# Altium integrated library Microchip Power Mgt Line Regulator.IntLib: 1066 symbols (part 13 of 26)
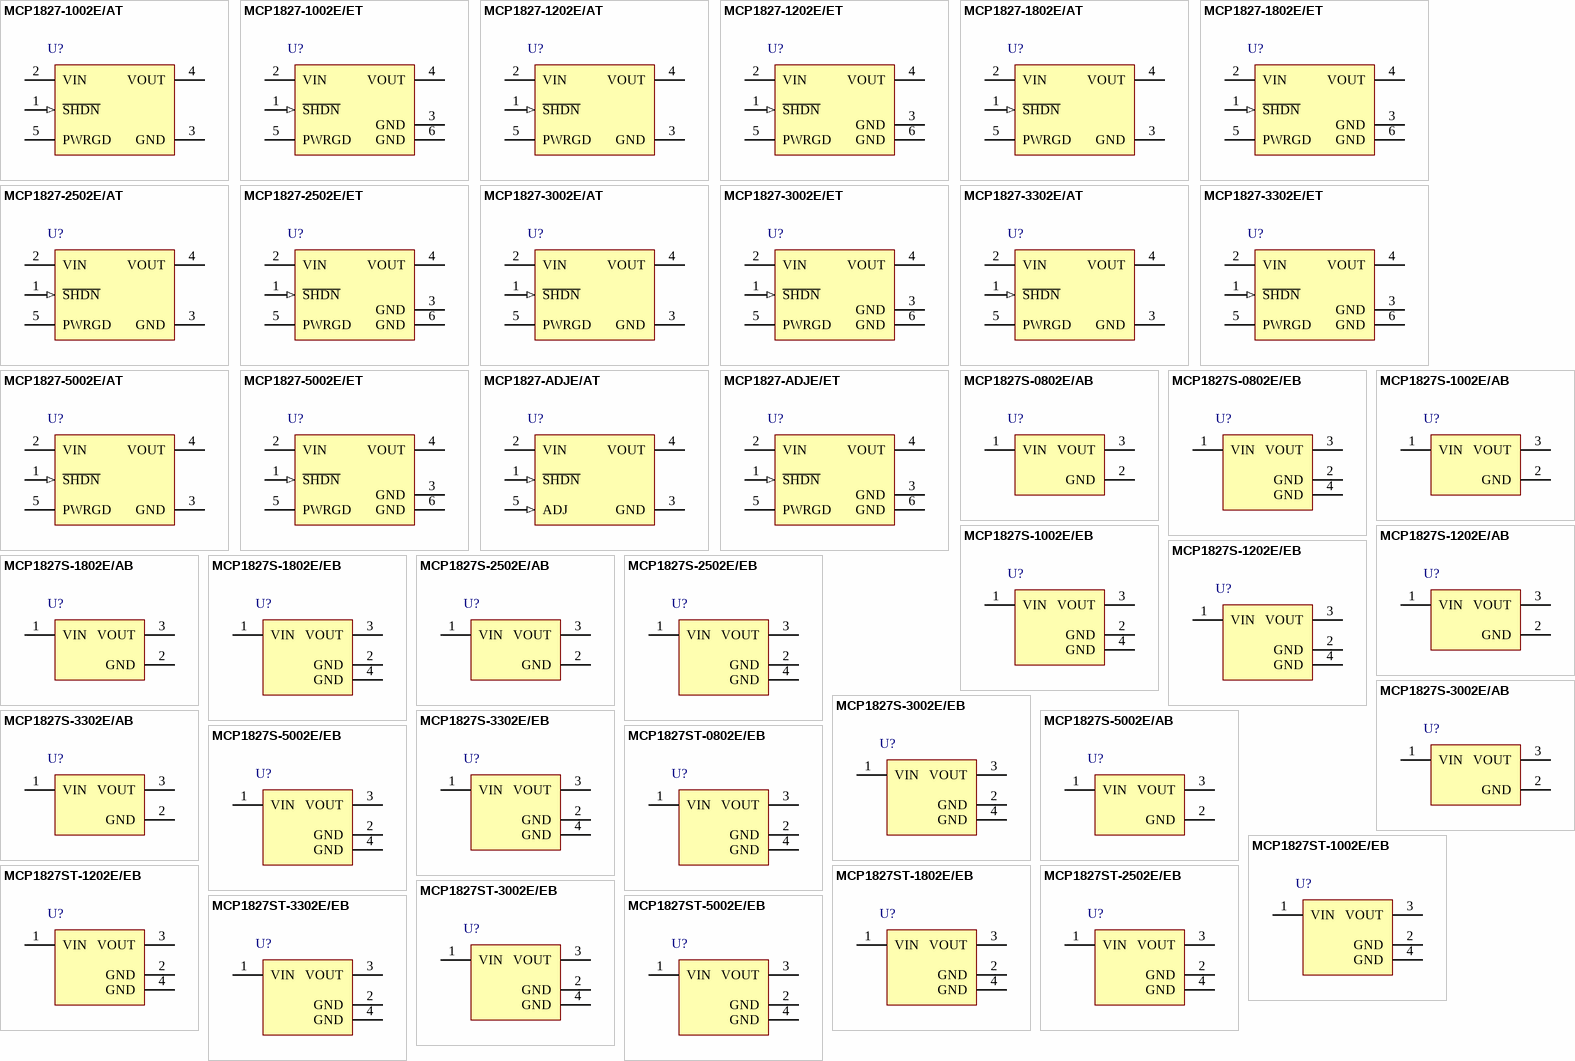
[diagram p38: symbols MCP1827-1002E/AT to MCP1827ST-5002E/EB]

## MCP1827S-1002E/EB
designator U?
1.5A, Low Voltage, Low Quiescent Current LDO Regulator, 3-Pin DDPAK, Extended Temperature; Published: 29-Jan-2009; DatasheetVersion: revC, Feb-2007; PackageVersion: revBB, Aug-2009; PackageReference: DDPAK-EB3; Publisher: Altium Limited; PackageDescription: 3-Lead Plastic (EB) [DDPAK]; ComponentLink1Description: Datasheet; ComponentLink1URL: http://ww1.microchip.com/downloads/en/DeviceDoc/22001c.pdf; ComponentLink2Description: Packaging Specification; ComponentLink2URL: http://www.microchip.com/stellent/groups/techpub_sg/documents/packagingspec/en012702.pdf; ComponentLink3Description: Microchip.com Home; ComponentLink3URL: http://www.microchip.com/
footprint DDPAK-EB3_N (D2-PAK, 4-Leads, Body 9x10.2mm, Pitch 2.54mm, Lead Span 14.9mm, IPC Medium Density)
footprint DDPAK-EB3_L (D2-PAK, 4-Leads, Body 9x10.2mm, Pitch 2.54mm, Lead Span 14.9mm, IPC High Density)
footprint DDPAK-EB3_M (D2-PAK, 4-Leads, Body 9x10.2mm, Pitch 2.54mm, Lead Span 14.9mm, IPC Low Density)
pins: 1 VIN (power), 2 GND (power), 3 VOUT (power), 4 GND (power)

## MCP1827S-1202E/AB
designator U?
1.5A, Low Voltage, Low Quiescent Current LDO Regulator, 3-Pin TO-220, Extended Temperature; Published: 29-Jan-2009; DatasheetVersion: revC, Feb-2007; PackageVersion: revBB, Aug-2009; PackageReference: TO-220-AB3; Publisher: Altium Limited; PackageDescription: 3-Lead Plastic Transistor Outline (AB) [TO-220]; Supplier 1: Digi-Key; Supplier Part Number 1: MCP1827S-1202E/AB-ND; ComponentLink1Description: Datasheet; ComponentLink1URL: http://ww1.microchip.com/downloads/en/DeviceDoc/22001c.pdf; ComponentLink2Description: Packaging Specification; ComponentLink2URL: http://www.microchip.com/stellent/groups/techpub_sg/documents/packagingspec/en012702.pdf; ComponentLink3Description: Microchip.com Home; ComponentLink3URL: http://www.microchip.com/
footprint TO-220-AB3 (TO, Thru-Hole, Vertical, Heatsink Mounted; 3 In-Line Leads; Pitch 2.54 mm)
pins: 1 VIN (power), 2 GND (power), 3 VOUT (power)

## MCP1827S-1202E/EB
designator U?
1.5A, Low Voltage, Low Quiescent Current LDO Regulator, 3-Pin DDPAK, Extended Temperature; Published: 29-Jan-2009; DatasheetVersion: revC, Feb-2007; PackageVersion: revBB, Aug-2009; PackageReference: DDPAK-EB3; Publisher: Altium Limited; PackageDescription: 3-Lead Plastic (EB) [DDPAK]; Supplier 1: Digi-Key; Supplier Part Number 1: MCP1827S-1202E/EB-ND; ComponentLink1Description: Datasheet; ComponentLink1URL: http://ww1.microchip.com/downloads/en/DeviceDoc/22001c.pdf; ComponentLink2Description: Packaging Specification; ComponentLink2URL: http://www.microchip.com/stellent/groups/techpub_sg/documents/packagingspec/en012702.pdf; ComponentLink3Description: Microchip.com Home; ComponentLink3URL: http://www.microchip.com/
footprint DDPAK-EB3_N (D2-PAK, 4-Leads, Body 9x10.2mm, Pitch 2.54mm, Lead Span 14.9mm, IPC Medium Density)
footprint DDPAK-EB3_L (D2-PAK, 4-Leads, Body 9x10.2mm, Pitch 2.54mm, Lead Span 14.9mm, IPC High Density)
footprint DDPAK-EB3_M (D2-PAK, 4-Leads, Body 9x10.2mm, Pitch 2.54mm, Lead Span 14.9mm, IPC Low Density)
pins: 1 VIN (power), 2 GND (power), 3 VOUT (power), 4 GND (power)

## MCP1827S-1802E/AB
designator U?
1.5A, Low Voltage, Low Quiescent Current LDO Regulator, 3-Pin TO-220, Extended Temperature; Published: 29-Jan-2009; DatasheetVersion: revC, Feb-2007; PackageVersion: revBB, Aug-2009; PackageReference: TO-220-AB3; Publisher: Altium Limited; PackageDescription: 3-Lead Plastic Transistor Outline (AB) [TO-220]; Supplier 1: Digi-Key; Supplier Part Number 1: MCP1827S-1802E/AB-ND; Supplier 2: Farnell; Supplier Part Number 2: 1834881; ComponentLink1Description: Datasheet; ComponentLink1URL: http://ww1.microchip.com/downloads/en/DeviceDoc/22001c.pdf; ComponentLink2Description: Packaging Specification; ComponentLink2URL: http://www.microchip.com/stellent/groups/techpub_sg/documents/packagingspec/en012702.pdf; ComponentLink3Description: Microchip.com Home; ComponentLink3URL: http://www.microchip.com/
footprint TO-220-AB3 (TO, Thru-Hole, Vertical, Heatsink Mounted; 3 In-Line Leads; Pitch 2.54 mm)
pins: 1 VIN (power), 2 GND (power), 3 VOUT (power)

## MCP1827S-1802E/EB
designator U?
1.5A, Low Voltage, Low Quiescent Current LDO Regulator, 3-Pin DDPAK, Extended Temperature; Published: 29-Jan-2009; DatasheetVersion: revC, Feb-2007; PackageVersion: revBB, Aug-2009; PackageReference: DDPAK-EB3; Publisher: Altium Limited; PackageDescription: 3-Lead Plastic (EB) [DDPAK]; Supplier 1: Digi-Key; Supplier Part Number 1: MCP1827S-1802E/EB-ND; ComponentLink1Description: Datasheet; ComponentLink1URL: http://ww1.microchip.com/downloads/en/DeviceDoc/22001c.pdf; ComponentLink2Description: Packaging Specification; ComponentLink2URL: http://www.microchip.com/stellent/groups/techpub_sg/documents/packagingspec/en012702.pdf; ComponentLink3Description: Microchip.com Home; ComponentLink3URL: http://www.microchip.com/
footprint DDPAK-EB3_N (D2-PAK, 4-Leads, Body 9x10.2mm, Pitch 2.54mm, Lead Span 14.9mm, IPC Medium Density)
footprint DDPAK-EB3_L (D2-PAK, 4-Leads, Body 9x10.2mm, Pitch 2.54mm, Lead Span 14.9mm, IPC High Density)
footprint DDPAK-EB3_M (D2-PAK, 4-Leads, Body 9x10.2mm, Pitch 2.54mm, Lead Span 14.9mm, IPC Low Density)
pins: 1 VIN (power), 2 GND (power), 3 VOUT (power), 4 GND (power)

## MCP1827S-2502E/AB
designator U?
1.5A, Low Voltage, Low Quiescent Current LDO Regulator, 3-Pin TO-220, Extended Temperature; Published: 29-Jan-2009; DatasheetVersion: revC, Feb-2007; PackageVersion: revBB, Aug-2009; PackageReference: TO-220-AB3; Publisher: Altium Limited; PackageDescription: 3-Lead Plastic Transistor Outline (AB) [TO-220]; Supplier 1: Digi-Key; Supplier Part Number 1: MCP1827S-2502E/AB-ND; ComponentLink1Description: Datasheet; ComponentLink1URL: http://ww1.microchip.com/downloads/en/DeviceDoc/22001c.pdf; ComponentLink2Description: Packaging Specification; ComponentLink2URL: http://www.microchip.com/stellent/groups/techpub_sg/documents/packagingspec/en012702.pdf; ComponentLink3Description: Microchip.com Home; ComponentLink3URL: http://www.microchip.com/
footprint TO-220-AB3 (TO, Thru-Hole, Vertical, Heatsink Mounted; 3 In-Line Leads; Pitch 2.54 mm)
pins: 1 VIN (power), 2 GND (power), 3 VOUT (power)

## MCP1827S-2502E/EB
designator U?
1.5A, Low Voltage, Low Quiescent Current LDO Regulator, 3-Pin DDPAK, Extended Temperature; Published: 29-Jan-2009; DatasheetVersion: revC, Feb-2007; PackageVersion: revBB, Aug-2009; PackageReference: DDPAK-EB3; Publisher: Altium Limited; PackageDescription: 3-Lead Plastic (EB) [DDPAK]; Supplier 1: Digi-Key; Supplier Part Number 1: MCP1827S-2502E/EB-ND; ComponentLink1Description: Datasheet; ComponentLink1URL: http://ww1.microchip.com/downloads/en/DeviceDoc/22001c.pdf; ComponentLink2Description: Packaging Specification; ComponentLink2URL: http://www.microchip.com/stellent/groups/techpub_sg/documents/packagingspec/en012702.pdf; ComponentLink3Description: Microchip.com Home; ComponentLink3URL: http://www.microchip.com/
footprint DDPAK-EB3_N (D2-PAK, 4-Leads, Body 9x10.2mm, Pitch 2.54mm, Lead Span 14.9mm, IPC Medium Density)
footprint DDPAK-EB3_L (D2-PAK, 4-Leads, Body 9x10.2mm, Pitch 2.54mm, Lead Span 14.9mm, IPC High Density)
footprint DDPAK-EB3_M (D2-PAK, 4-Leads, Body 9x10.2mm, Pitch 2.54mm, Lead Span 14.9mm, IPC Low Density)
pins: 1 VIN (power), 2 GND (power), 3 VOUT (power), 4 GND (power)

## MCP1827S-3002E/AB
designator U?
1.5A, Low Voltage, Low Quiescent Current LDO Regulator, 3-Pin TO-220, Extended Temperature; Published: 29-Jan-2009; DatasheetVersion: revC, Feb-2007; PackageVersion: revBB, Aug-2009; PackageReference: TO-220-AB3; Publisher: Altium Limited; PackageDescription: 3-Lead Plastic Transistor Outline (AB) [TO-220]; Supplier 1: Digi-Key; Supplier Part Number 1: MCP1827S-3002E/AB-ND; ComponentLink1Description: Datasheet; ComponentLink1URL: http://ww1.microchip.com/downloads/en/DeviceDoc/22001c.pdf; ComponentLink2Description: Packaging Specification; ComponentLink2URL: http://www.microchip.com/stellent/groups/techpub_sg/documents/packagingspec/en012702.pdf; ComponentLink3Description: Microchip.com Home; ComponentLink3URL: http://www.microchip.com/
footprint TO-220-AB3 (TO, Thru-Hole, Vertical, Heatsink Mounted; 3 In-Line Leads; Pitch 2.54 mm)
pins: 1 VIN (power), 2 GND (power), 3 VOUT (power)

## MCP1827S-3002E/EB
designator U?
1.5A, Low Voltage, Low Quiescent Current LDO Regulator, 3-Pin DDPAK, Extended Temperature; Published: 29-Jan-2009; DatasheetVersion: revC, Feb-2007; PackageVersion: revBB, Aug-2009; PackageReference: DDPAK-EB3; Publisher: Altium Limited; PackageDescription: 3-Lead Plastic (EB) [DDPAK]; Supplier 1: Digi-Key; Supplier Part Number 1: MCP1827S-3002E/EB-ND; ComponentLink1Description: Datasheet; ComponentLink1URL: http://ww1.microchip.com/downloads/en/DeviceDoc/22001c.pdf; ComponentLink2Description: Packaging Specification; ComponentLink2URL: http://www.microchip.com/stellent/groups/techpub_sg/documents/packagingspec/en012702.pdf; ComponentLink3Description: Microchip.com Home; ComponentLink3URL: http://www.microchip.com/
footprint DDPAK-EB3_N (D2-PAK, 4-Leads, Body 9x10.2mm, Pitch 2.54mm, Lead Span 14.9mm, IPC Medium Density)
footprint DDPAK-EB3_L (D2-PAK, 4-Leads, Body 9x10.2mm, Pitch 2.54mm, Lead Span 14.9mm, IPC High Density)
footprint DDPAK-EB3_M (D2-PAK, 4-Leads, Body 9x10.2mm, Pitch 2.54mm, Lead Span 14.9mm, IPC Low Density)
pins: 1 VIN (power), 2 GND (power), 3 VOUT (power), 4 GND (power)

## MCP1827S-3302E/AB
designator U?
1.5A, Low Voltage, Low Quiescent Current LDO Regulator, 3-Pin TO-220, Extended Temperature; Published: 29-Jan-2009; DatasheetVersion: revC, Feb-2007; PackageVersion: revBB, Aug-2009; PackageReference: TO-220-AB3; Publisher: Altium Limited; PackageDescription: 3-Lead Plastic Transistor Outline (AB) [TO-220]; Supplier 1: Digi-Key; Supplier Part Number 1: MCP1827S-3302E/AB-ND; Supplier 2: Farnell; Supplier Part Number 2: 1834970; ComponentLink1Description: Datasheet; ComponentLink1URL: http://ww1.microchip.com/downloads/en/DeviceDoc/22001c.pdf; ComponentLink2Description: Packaging Specification; ComponentLink2URL: http://www.microchip.com/stellent/groups/techpub_sg/documents/packagingspec/en012702.pdf; ComponentLink3Description: Microchip.com Home; ComponentLink3URL: http://www.microchip.com/
footprint TO-220-AB3 (TO, Thru-Hole, Vertical, Heatsink Mounted; 3 In-Line Leads; Pitch 2.54 mm)
pins: 1 VIN (power), 2 GND (power), 3 VOUT (power)

## MCP1827S-3302E/EB
designator U?
1.5A, Low Voltage, Low Quiescent Current LDO Regulator, 3-Pin DDPAK, Extended Temperature; Published: 29-Jan-2009; DatasheetVersion: revC, Feb-2007; PackageVersion: revBB, Aug-2009; PackageReference: DDPAK-EB3; Publisher: Altium Limited; PackageDescription: 3-Lead Plastic (EB) [DDPAK]; Supplier 1: Digi-Key; Supplier Part Number 1: MCP1827S-3302E/EB-ND; ComponentLink1Description: Datasheet; ComponentLink1URL: http://ww1.microchip.com/downloads/en/DeviceDoc/22001c.pdf; ComponentLink2Description: Packaging Specification; ComponentLink2URL: http://www.microchip.com/stellent/groups/techpub_sg/documents/packagingspec/en012702.pdf; ComponentLink3Description: Microchip.com Home; ComponentLink3URL: http://www.microchip.com/
footprint DDPAK-EB3_N (D2-PAK, 4-Leads, Body 9x10.2mm, Pitch 2.54mm, Lead Span 14.9mm, IPC Medium Density)
footprint DDPAK-EB3_L (D2-PAK, 4-Leads, Body 9x10.2mm, Pitch 2.54mm, Lead Span 14.9mm, IPC High Density)
footprint DDPAK-EB3_M (D2-PAK, 4-Leads, Body 9x10.2mm, Pitch 2.54mm, Lead Span 14.9mm, IPC Low Density)
pins: 1 VIN (power), 2 GND (power), 3 VOUT (power), 4 GND (power)

## MCP1827S-5002E/AB
designator U?
1.5A, Low Voltage, Low Quiescent Current LDO Regulator, 3-Pin TO-220, Extended Temperature; Published: 29-Jan-2009; DatasheetVersion: revC, Feb-2007; PackageVersion: revBB, Aug-2009; PackageReference: TO-220-AB3; Publisher: Altium Limited; PackageDescription: 3-Lead Plastic Transistor Outline (AB) [TO-220]; Supplier 1: Digi-Key; Supplier Part Number 1: MCP1827S-5002E/AB-ND; ComponentLink1Description: Datasheet; ComponentLink1URL: http://ww1.microchip.com/downloads/en/DeviceDoc/22001c.pdf; ComponentLink2Description: Packaging Specification; ComponentLink2URL: http://www.microchip.com/stellent/groups/techpub_sg/documents/packagingspec/en012702.pdf; ComponentLink3Description: Microchip.com Home; ComponentLink3URL: http://www.microchip.com/
footprint TO-220-AB3 (TO, Thru-Hole, Vertical, Heatsink Mounted; 3 In-Line Leads; Pitch 2.54 mm)
pins: 1 VIN (power), 2 GND (power), 3 VOUT (power)

## MCP1827S-5002E/EB
designator U?
1.5A, Low Voltage, Low Quiescent Current LDO Regulator, 3-Pin DDPAK, Extended Temperature; Published: 29-Jan-2009; DatasheetVersion: revC, Feb-2007; PackageVersion: revBB, Aug-2009; PackageReference: DDPAK-EB3; Publisher: Altium Limited; PackageDescription: 3-Lead Plastic (EB) [DDPAK]; Supplier 1: Digi-Key; Supplier Part Number 1: MCP1827S-5002E/EB-ND; ComponentLink1Description: Datasheet; ComponentLink1URL: http://ww1.microchip.com/downloads/en/DeviceDoc/22001c.pdf; ComponentLink2Description: Packaging Specification; ComponentLink2URL: http://www.microchip.com/stellent/groups/techpub_sg/documents/packagingspec/en012702.pdf; ComponentLink3Description: Microchip.com Home; ComponentLink3URL: http://www.microchip.com/
footprint DDPAK-EB3_N (D2-PAK, 4-Leads, Body 9x10.2mm, Pitch 2.54mm, Lead Span 14.9mm, IPC Medium Density)
footprint DDPAK-EB3_L (D2-PAK, 4-Leads, Body 9x10.2mm, Pitch 2.54mm, Lead Span 14.9mm, IPC High Density)
footprint DDPAK-EB3_M (D2-PAK, 4-Leads, Body 9x10.2mm, Pitch 2.54mm, Lead Span 14.9mm, IPC Low Density)
pins: 1 VIN (power), 2 GND (power), 3 VOUT (power), 4 GND (power)

## MCP1827ST-0802E/EB
designator U?
1.5A, Low Voltage, Low Quiescent Current LDO Regulator, 3-Pin DDPAK, Extended Temperature, Tape and Reel; Published: 29-Jan-2009; DatasheetVersion: revC, Feb-2007; PackageVersion: revBB, Aug-2009; PackageReference: DDPAK-EB3; Publisher: Altium Limited; PackageDescription: 3-Lead Plastic (EB) [DDPAK]; Supplier 1: Digi-Key; Supplier Part Number 1: MCP1827ST-0802E/EB-ND; ComponentLink1Description: Datasheet; ComponentLink1URL: http://ww1.microchip.com/downloads/en/DeviceDoc/22001c.pdf; ComponentLink2Description: Packaging Specification; ComponentLink2URL: http://www.microchip.com/stellent/groups/techpub_sg/documents/packagingspec/en012702.pdf; ComponentLink3Description: Microchip.com Home; ComponentLink3URL: http://www.microchip.com/
footprint DDPAK-EB3_N (D2-PAK, 4-Leads, Body 9x10.2mm, Pitch 2.54mm, Lead Span 14.9mm, IPC Medium Density)
footprint DDPAK-EB3_L (D2-PAK, 4-Leads, Body 9x10.2mm, Pitch 2.54mm, Lead Span 14.9mm, IPC High Density)
footprint DDPAK-EB3_M (D2-PAK, 4-Leads, Body 9x10.2mm, Pitch 2.54mm, Lead Span 14.9mm, IPC Low Density)
pins: 1 VIN (power), 2 GND (power), 3 VOUT (power), 4 GND (power)

## MCP1827ST-1002E/EB
designator U?
1.5A, Low Voltage, Low Quiescent Current LDO Regulator, 3-Pin DDPAK, Extended Temperature, Tape and Reel; Published: 29-Jan-2009; DatasheetVersion: revC, Feb-2007; PackageVersion: revBB, Aug-2009; PackageReference: DDPAK-EB3; Publisher: Altium Limited; PackageDescription: 3-Lead Plastic (EB) [DDPAK]; ComponentLink1Description: Datasheet; ComponentLink1URL: http://ww1.microchip.com/downloads/en/DeviceDoc/22001c.pdf; ComponentLink2Description: Packaging Specification; ComponentLink2URL: http://www.microchip.com/stellent/groups/techpub_sg/documents/packagingspec/en012702.pdf; ComponentLink3Description: Microchip.com Home; ComponentLink3URL: http://www.microchip.com/
footprint DDPAK-EB3_N (D2-PAK, 4-Leads, Body 9x10.2mm, Pitch 2.54mm, Lead Span 14.9mm, IPC Medium Density)
footprint DDPAK-EB3_L (D2-PAK, 4-Leads, Body 9x10.2mm, Pitch 2.54mm, Lead Span 14.9mm, IPC High Density)
footprint DDPAK-EB3_M (D2-PAK, 4-Leads, Body 9x10.2mm, Pitch 2.54mm, Lead Span 14.9mm, IPC Low Density)
pins: 1 VIN (power), 2 GND (power), 3 VOUT (power), 4 GND (power)

## MCP1827ST-1202E/EB
designator U?
1.5A, Low Voltage, Low Quiescent Current LDO Regulator, 3-Pin DDPAK, Extended Temperature, Tape and Reel; Published: 29-Jan-2009; DatasheetVersion: revC, Feb-2007; PackageVersion: revBB, Aug-2009; PackageReference: DDPAK-EB3; Publisher: Altium Limited; PackageDescription: 3-Lead Plastic (EB) [DDPAK]; Supplier 1: Digi-Key; Supplier Part Number 1: MCP1827ST-1202E/EB-ND; ComponentLink1Description: Datasheet; ComponentLink1URL: http://ww1.microchip.com/downloads/en/DeviceDoc/22001c.pdf; ComponentLink2Description: Packaging Specification; ComponentLink2URL: http://www.microchip.com/stellent/groups/techpub_sg/documents/packagingspec/en012702.pdf; ComponentLink3Description: Microchip.com Home; ComponentLink3URL: http://www.microchip.com/
footprint DDPAK-EB3_N (D2-PAK, 4-Leads, Body 9x10.2mm, Pitch 2.54mm, Lead Span 14.9mm, IPC Medium Density)
footprint DDPAK-EB3_L (D2-PAK, 4-Leads, Body 9x10.2mm, Pitch 2.54mm, Lead Span 14.9mm, IPC High Density)
footprint DDPAK-EB3_M (D2-PAK, 4-Leads, Body 9x10.2mm, Pitch 2.54mm, Lead Span 14.9mm, IPC Low Density)
pins: 1 VIN (power), 2 GND (power), 3 VOUT (power), 4 GND (power)

## MCP1827ST-1802E/EB
designator U?
1.5A, Low Voltage, Low Quiescent Current LDO Regulator, 3-Pin DDPAK, Extended Temperature, Tape and Reel; Published: 29-Jan-2009; DatasheetVersion: revC, Feb-2007; PackageVersion: revBB, Aug-2009; PackageReference: DDPAK-EB3; Publisher: Altium Limited; PackageDescription: 3-Lead Plastic (EB) [DDPAK]; Supplier 1: Digi-Key; Supplier Part Number 1: MCP1827ST-1802E/EB-ND; ComponentLink1Description: Datasheet; ComponentLink1URL: http://ww1.microchip.com/downloads/en/DeviceDoc/22001c.pdf; ComponentLink2Description: Packaging Specification; ComponentLink2URL: http://www.microchip.com/stellent/groups/techpub_sg/documents/packagingspec/en012702.pdf; ComponentLink3Description: Microchip.com Home; ComponentLink3URL: http://www.microchip.com/
footprint DDPAK-EB3_N (D2-PAK, 4-Leads, Body 9x10.2mm, Pitch 2.54mm, Lead Span 14.9mm, IPC Medium Density)
footprint DDPAK-EB3_L (D2-PAK, 4-Leads, Body 9x10.2mm, Pitch 2.54mm, Lead Span 14.9mm, IPC High Density)
footprint DDPAK-EB3_M (D2-PAK, 4-Leads, Body 9x10.2mm, Pitch 2.54mm, Lead Span 14.9mm, IPC Low Density)
pins: 1 VIN (power), 2 GND (power), 3 VOUT (power), 4 GND (power)

## MCP1827ST-2502E/EB
designator U?
1.5A, Low Voltage, Low Quiescent Current LDO Regulator, 3-Pin DDPAK, Extended Temperature, Tape and Reel; Published: 29-Jan-2009; DatasheetVersion: revC, Feb-2007; PackageVersion: revBB, Aug-2009; PackageReference: DDPAK-EB3; Publisher: Altium Limited; PackageDescription: 3-Lead Plastic (EB) [DDPAK]; Supplier 1: Digi-Key; Supplier Part Number 1: MCP1827ST-2502E/EB-ND; ComponentLink1Description: Datasheet; ComponentLink1URL: http://ww1.microchip.com/downloads/en/DeviceDoc/22001c.pdf; ComponentLink2Description: Packaging Specification; ComponentLink2URL: http://www.microchip.com/stellent/groups/techpub_sg/documents/packagingspec/en012702.pdf; ComponentLink3Description: Microchip.com Home; ComponentLink3URL: http://www.microchip.com/
footprint DDPAK-EB3_N (D2-PAK, 4-Leads, Body 9x10.2mm, Pitch 2.54mm, Lead Span 14.9mm, IPC Medium Density)
footprint DDPAK-EB3_L (D2-PAK, 4-Leads, Body 9x10.2mm, Pitch 2.54mm, Lead Span 14.9mm, IPC High Density)
footprint DDPAK-EB3_M (D2-PAK, 4-Leads, Body 9x10.2mm, Pitch 2.54mm, Lead Span 14.9mm, IPC Low Density)
pins: 1 VIN (power), 2 GND (power), 3 VOUT (power), 4 GND (power)

## MCP1827ST-3002E/EB
designator U?
1.5A, Low Voltage, Low Quiescent Current LDO Regulator, 3-Pin DDPAK, Extended Temperature, Tape and Reel; Published: 29-Jan-2009; DatasheetVersion: revC, Feb-2007; PackageVersion: revBB, Aug-2009; PackageReference: DDPAK-EB3; Publisher: Altium Limited; PackageDescription: 3-Lead Plastic (EB) [DDPAK]; Supplier 1: Digi-Key; Supplier Part Number 1: MCP1827ST-3002E/EB-ND; ComponentLink1Description: Datasheet; ComponentLink1URL: http://ww1.microchip.com/downloads/en/DeviceDoc/22001c.pdf; ComponentLink2Description: Packaging Specification; ComponentLink2URL: http://www.microchip.com/stellent/groups/techpub_sg/documents/packagingspec/en012702.pdf; ComponentLink3Description: Microchip.com Home; ComponentLink3URL: http://www.microchip.com/
footprint DDPAK-EB3_N (D2-PAK, 4-Leads, Body 9x10.2mm, Pitch 2.54mm, Lead Span 14.9mm, IPC Medium Density)
footprint DDPAK-EB3_L (D2-PAK, 4-Leads, Body 9x10.2mm, Pitch 2.54mm, Lead Span 14.9mm, IPC High Density)
footprint DDPAK-EB3_M (D2-PAK, 4-Leads, Body 9x10.2mm, Pitch 2.54mm, Lead Span 14.9mm, IPC Low Density)
pins: 1 VIN (power), 2 GND (power), 3 VOUT (power), 4 GND (power)

## MCP1827ST-3302E/EB
designator U?
1.5A, Low Voltage, Low Quiescent Current LDO Regulator, 3-Pin DDPAK, Extended Temperature, Tape and Reel; Published: 29-Jan-2009; DatasheetVersion: revC, Feb-2007; PackageVersion: revBB, Aug-2009; PackageReference: DDPAK-EB3; Publisher: Altium Limited; PackageDescription: 3-Lead Plastic (EB) [DDPAK]; Supplier 1: Digi-Key; Supplier Part Number 1: MCP1827ST-3302E/EB-ND; ComponentLink1Description: Datasheet; ComponentLink1URL: http://ww1.microchip.com/downloads/en/DeviceDoc/22001c.pdf; ComponentLink2Description: Packaging Specification; ComponentLink2URL: http://www.microchip.com/stellent/groups/techpub_sg/documents/packagingspec/en012702.pdf; ComponentLink3Description: Microchip.com Home; ComponentLink3URL: http://www.microchip.com/
footprint DDPAK-EB3_N (D2-PAK, 4-Leads, Body 9x10.2mm, Pitch 2.54mm, Lead Span 14.9mm, IPC Medium Density)
footprint DDPAK-EB3_L (D2-PAK, 4-Leads, Body 9x10.2mm, Pitch 2.54mm, Lead Span 14.9mm, IPC High Density)
footprint DDPAK-EB3_M (D2-PAK, 4-Leads, Body 9x10.2mm, Pitch 2.54mm, Lead Span 14.9mm, IPC Low Density)
pins: 1 VIN (power), 2 GND (power), 3 VOUT (power), 4 GND (power)

## MCP1827ST-5002E/EB
designator U?
1.5A, Low Voltage, Low Quiescent Current LDO Regulator, 3-Pin DDPAK, Extended Temperature, Tape and Reel; Published: 29-Jan-2009; DatasheetVersion: revC, Feb-2007; PackageVersion: revBB, Aug-2009; PackageReference: DDPAK-EB3; Publisher: Altium Limited; PackageDescription: 3-Lead Plastic (EB) [DDPAK]; Supplier 1: Digi-Key; Supplier Part Number 1: MCP1827ST-5002E/EB-ND; ComponentLink1Description: Datasheet; ComponentLink1URL: http://ww1.microchip.com/downloads/en/DeviceDoc/22001c.pdf; ComponentLink2Description: Packaging Specification; ComponentLink2URL: http://www.microchip.com/stellent/groups/techpub_sg/documents/packagingspec/en012702.pdf; ComponentLink3Description: Microchip.com Home; ComponentLink3URL: http://www.microchip.com/
footprint DDPAK-EB3_N (D2-PAK, 4-Leads, Body 9x10.2mm, Pitch 2.54mm, Lead Span 14.9mm, IPC Medium Density)
footprint DDPAK-EB3_L (D2-PAK, 4-Leads, Body 9x10.2mm, Pitch 2.54mm, Lead Span 14.9mm, IPC High Density)
footprint DDPAK-EB3_M (D2-PAK, 4-Leads, Body 9x10.2mm, Pitch 2.54mm, Lead Span 14.9mm, IPC Low Density)
pins: 1 VIN (power), 2 GND (power), 3 VOUT (power), 4 GND (power)

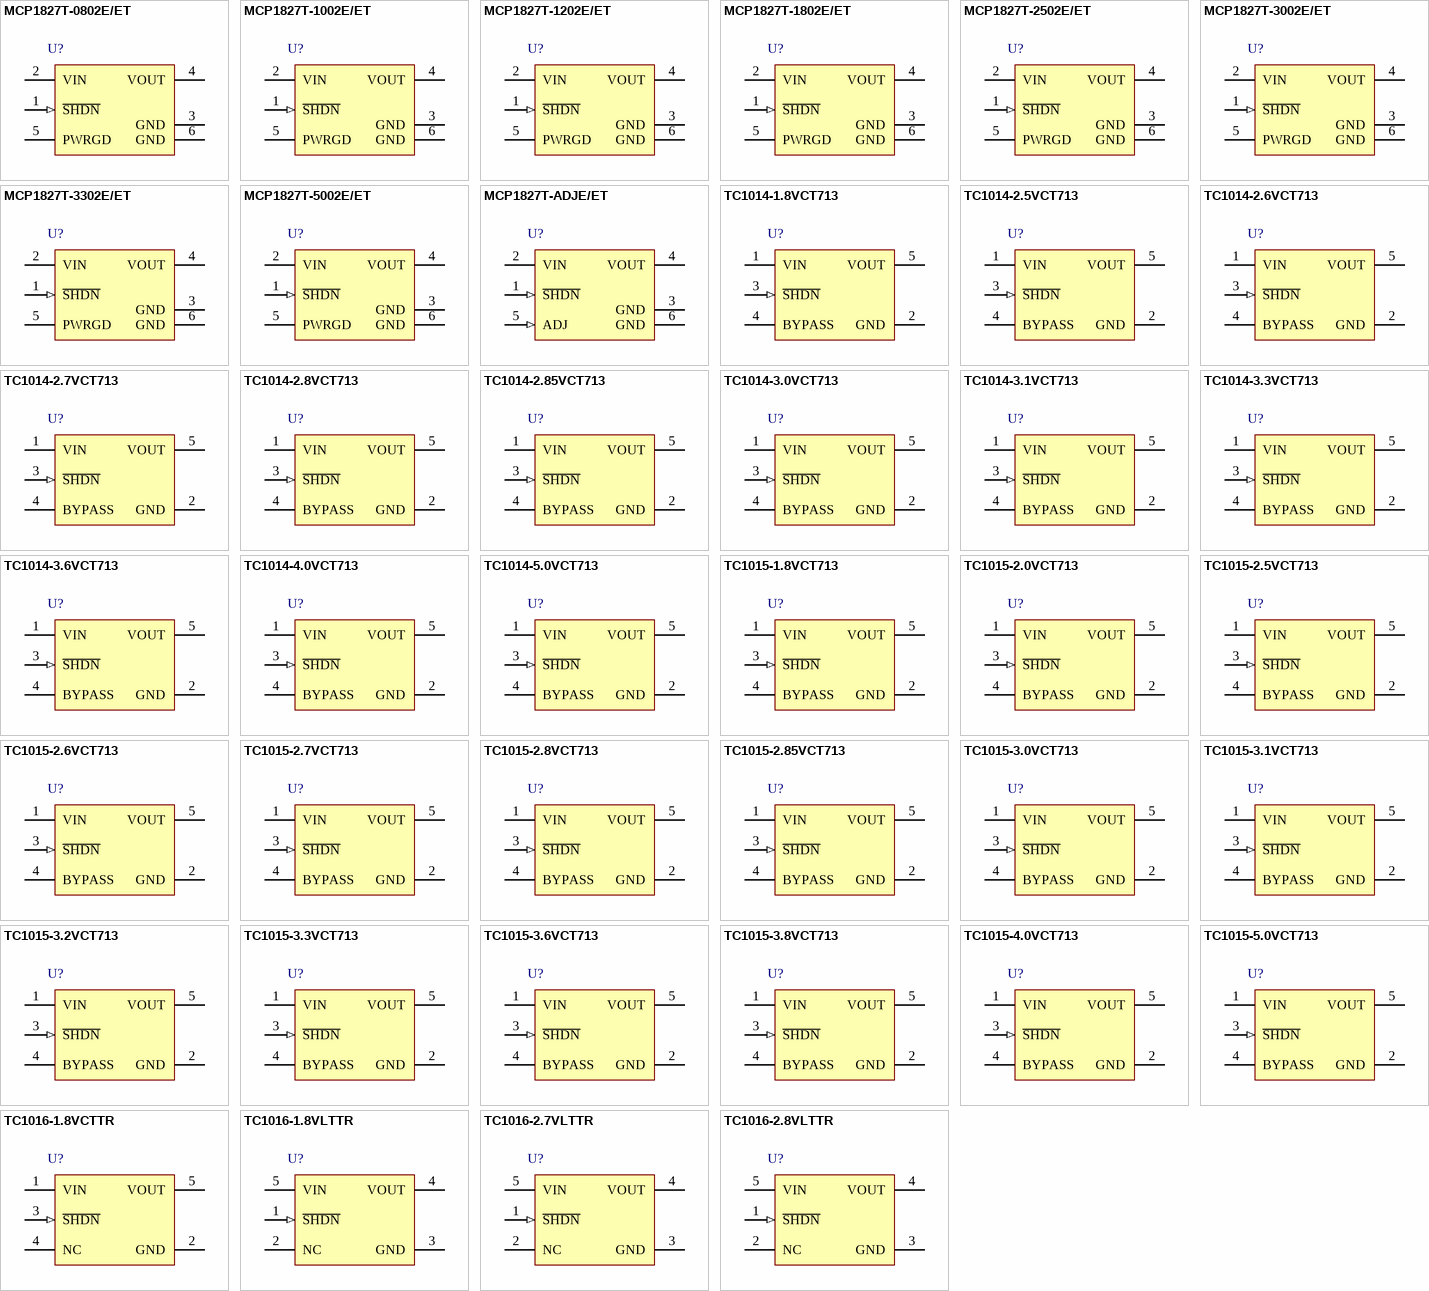
[diagram p13: symbols MCP1827T-0802E/ET to TC1016-2.8VLTTR]

## MCP1827T-0802E/ET
designator U?
1.5A, Low Voltage, Low Quiescent Current LDO Regulator, 5-Pin DDPAK, Extended Temperature, Tape and Reel; Published: 29-Jan-2009; DatasheetVersion: revC, Feb-2007; PackageVersion: revBB, Aug-2009; PackageReference: DDPAK-ET5; Publisher: Altium Limited; PackageDescription: 5-Lead Plastic (ET) [DDPAK]; Supplier 1: Digi-Key; Supplier Part Number 1: MCP1827T-0802E/ET-ND; ComponentLink1Description: Datasheet; ComponentLink1URL: http://ww1.microchip.com/downloads/en/DeviceDoc/22001c.pdf; ComponentLink2Description: Packaging Specification; ComponentLink2URL: http://www.microchip.com/stellent/groups/techpub_sg/documents/packagingspec/en012702.pdf; ComponentLink3Description: Microchip.com Home; ComponentLink3URL: http://www.microchip.com/
footprint DDPAK-ET5_N (D2-PAK, 6-Leads, Body 9x10.2mm, Pitch 1.7mm, Lead Span 14.9mm, IPC Medium Density)
footprint DDPAK-ET5_L (D2-PAK, 6-Leads, Body 9x10.2mm, Pitch 1.7mm, Lead Span 14.9mm, IPC High Density)
footprint DDPAK-ET5_M (D2-PAK, 6-Leads, Body 9x10.2mm, Pitch 1.7mm, Lead Span 14.9mm, IPC Low Density)
pins: 1 ~{SHDN} (in), 2 VIN (power), 3 GND (power), 4 VOUT (power), 5 PWRGD (power), 6 GND (power)

## MCP1827T-1002E/ET
designator U?
1.5A, Low Voltage, Low Quiescent Current LDO Regulator, 5-Pin DDPAK, Extended Temperature, Tape and Reel; Published: 29-Jan-2009; DatasheetVersion: revC, Feb-2007; PackageVersion: revBB, Aug-2009; PackageReference: DDPAK-ET5; Publisher: Altium Limited; PackageDescription: 5-Lead Plastic (ET) [DDPAK]; ComponentLink1Description: Datasheet; ComponentLink1URL: http://ww1.microchip.com/downloads/en/DeviceDoc/22001c.pdf; ComponentLink2Description: Packaging Specification; ComponentLink2URL: http://www.microchip.com/stellent/groups/techpub_sg/documents/packagingspec/en012702.pdf; ComponentLink3Description: Microchip.com Home; ComponentLink3URL: http://www.microchip.com/
footprint DDPAK-ET5_N (D2-PAK, 6-Leads, Body 9x10.2mm, Pitch 1.7mm, Lead Span 14.9mm, IPC Medium Density)
footprint DDPAK-ET5_L (D2-PAK, 6-Leads, Body 9x10.2mm, Pitch 1.7mm, Lead Span 14.9mm, IPC High Density)
footprint DDPAK-ET5_M (D2-PAK, 6-Leads, Body 9x10.2mm, Pitch 1.7mm, Lead Span 14.9mm, IPC Low Density)
pins: 1 ~{SHDN} (in), 2 VIN (power), 3 GND (power), 4 VOUT (power), 5 PWRGD (power), 6 GND (power)

## MCP1827T-1202E/ET
designator U?
1.5A, Low Voltage, Low Quiescent Current LDO Regulator, 5-Pin DDPAK, Extended Temperature, Tape and Reel; Published: 29-Jan-2009; DatasheetVersion: revC, Feb-2007; PackageVersion: revBB, Aug-2009; PackageReference: DDPAK-ET5; Publisher: Altium Limited; PackageDescription: 5-Lead Plastic (ET) [DDPAK]; Supplier 1: Digi-Key; Supplier Part Number 1: MCP1827T-1202E/ET-ND; ComponentLink1Description: Datasheet; ComponentLink1URL: http://ww1.microchip.com/downloads/en/DeviceDoc/22001c.pdf; ComponentLink2Description: Packaging Specification; ComponentLink2URL: http://www.microchip.com/stellent/groups/techpub_sg/documents/packagingspec/en012702.pdf; ComponentLink3Description: Microchip.com Home; ComponentLink3URL: http://www.microchip.com/
footprint DDPAK-ET5_N (D2-PAK, 6-Leads, Body 9x10.2mm, Pitch 1.7mm, Lead Span 14.9mm, IPC Medium Density)
footprint DDPAK-ET5_L (D2-PAK, 6-Leads, Body 9x10.2mm, Pitch 1.7mm, Lead Span 14.9mm, IPC High Density)
footprint DDPAK-ET5_M (D2-PAK, 6-Leads, Body 9x10.2mm, Pitch 1.7mm, Lead Span 14.9mm, IPC Low Density)
pins: 1 ~{SHDN} (in), 2 VIN (power), 3 GND (power), 4 VOUT (power), 5 PWRGD (power), 6 GND (power)

## MCP1827T-1802E/ET
designator U?
1.5A, Low Voltage, Low Quiescent Current LDO Regulator, 5-Pin DDPAK, Extended Temperature, Tape and Reel; Published: 29-Jan-2009; DatasheetVersion: revC, Feb-2007; PackageVersion: revBB, Aug-2009; PackageReference: DDPAK-ET5; Publisher: Altium Limited; PackageDescription: 5-Lead Plastic (ET) [DDPAK]; Supplier 1: Digi-Key; Supplier Part Number 1: MCP1827T-1802E/ET-ND; ComponentLink1Description: Datasheet; ComponentLink1URL: http://ww1.microchip.com/downloads/en/DeviceDoc/22001c.pdf; ComponentLink2Description: Packaging Specification; ComponentLink2URL: http://www.microchip.com/stellent/groups/techpub_sg/documents/packagingspec/en012702.pdf; ComponentLink3Description: Microchip.com Home; ComponentLink3URL: http://www.microchip.com/
footprint DDPAK-ET5_N (D2-PAK, 6-Leads, Body 9x10.2mm, Pitch 1.7mm, Lead Span 14.9mm, IPC Medium Density)
footprint DDPAK-ET5_L (D2-PAK, 6-Leads, Body 9x10.2mm, Pitch 1.7mm, Lead Span 14.9mm, IPC High Density)
footprint DDPAK-ET5_M (D2-PAK, 6-Leads, Body 9x10.2mm, Pitch 1.7mm, Lead Span 14.9mm, IPC Low Density)
pins: 1 ~{SHDN} (in), 2 VIN (power), 3 GND (power), 4 VOUT (power), 5 PWRGD (power), 6 GND (power)

## MCP1827T-2502E/ET
designator U?
1.5A, Low Voltage, Low Quiescent Current LDO Regulator, 5-Pin DDPAK, Extended Temperature, Tape and Reel; Published: 29-Jan-2009; DatasheetVersion: revC, Feb-2007; PackageVersion: revBB, Aug-2009; PackageReference: DDPAK-ET5; Publisher: Altium Limited; PackageDescription: 5-Lead Plastic (ET) [DDPAK]; Supplier 1: Digi-Key; Supplier Part Number 1: MCP1827T-2502E/ET-ND; ComponentLink1Description: Datasheet; ComponentLink1URL: http://ww1.microchip.com/downloads/en/DeviceDoc/22001c.pdf; ComponentLink2Description: Packaging Specification; ComponentLink2URL: http://www.microchip.com/stellent/groups/techpub_sg/documents/packagingspec/en012702.pdf; ComponentLink3Description: Microchip.com Home; ComponentLink3URL: http://www.microchip.com/
footprint DDPAK-ET5_N (D2-PAK, 6-Leads, Body 9x10.2mm, Pitch 1.7mm, Lead Span 14.9mm, IPC Medium Density)
footprint DDPAK-ET5_L (D2-PAK, 6-Leads, Body 9x10.2mm, Pitch 1.7mm, Lead Span 14.9mm, IPC High Density)
footprint DDPAK-ET5_M (D2-PAK, 6-Leads, Body 9x10.2mm, Pitch 1.7mm, Lead Span 14.9mm, IPC Low Density)
pins: 1 ~{SHDN} (in), 2 VIN (power), 3 GND (power), 4 VOUT (power), 5 PWRGD (power), 6 GND (power)

## MCP1827T-3002E/ET
designator U?
1.5A, Low Voltage, Low Quiescent Current LDO Regulator, 5-Pin DDPAK, Extended Temperature, Tape and Reel; Published: 29-Jan-2009; DatasheetVersion: revC, Feb-2007; PackageVersion: revBB, Aug-2009; PackageReference: DDPAK-ET5; Publisher: Altium Limited; PackageDescription: 5-Lead Plastic (ET) [DDPAK]; Supplier 1: Digi-Key; Supplier Part Number 1: MCP1827T-3002E/ET-ND; ComponentLink1Description: Datasheet; ComponentLink1URL: http://ww1.microchip.com/downloads/en/DeviceDoc/22001c.pdf; ComponentLink2Description: Packaging Specification; ComponentLink2URL: http://www.microchip.com/stellent/groups/techpub_sg/documents/packagingspec/en012702.pdf; ComponentLink3Description: Microchip.com Home; ComponentLink3URL: http://www.microchip.com/
footprint DDPAK-ET5_N (D2-PAK, 6-Leads, Body 9x10.2mm, Pitch 1.7mm, Lead Span 14.9mm, IPC Medium Density)
footprint DDPAK-ET5_L (D2-PAK, 6-Leads, Body 9x10.2mm, Pitch 1.7mm, Lead Span 14.9mm, IPC High Density)
footprint DDPAK-ET5_M (D2-PAK, 6-Leads, Body 9x10.2mm, Pitch 1.7mm, Lead Span 14.9mm, IPC Low Density)
pins: 1 ~{SHDN} (in), 2 VIN (power), 3 GND (power), 4 VOUT (power), 5 PWRGD (power), 6 GND (power)

## MCP1827T-3302E/ET
designator U?
1.5A, Low Voltage, Low Quiescent Current LDO Regulator, 5-Pin DDPAK, Extended Temperature, Tape and Reel; Published: 29-Jan-2009; DatasheetVersion: revC, Feb-2007; PackageVersion: revBB, Aug-2009; PackageReference: DDPAK-ET5; Publisher: Altium Limited; PackageDescription: 5-Lead Plastic (ET) [DDPAK]; Supplier 1: Digi-Key; Supplier Part Number 1: MCP1827T-3302E/ET-ND; ComponentLink1Description: Datasheet; ComponentLink1URL: http://ww1.microchip.com/downloads/en/DeviceDoc/22001c.pdf; ComponentLink2Description: Packaging Specification; ComponentLink2URL: http://www.microchip.com/stellent/groups/techpub_sg/documents/packagingspec/en012702.pdf; ComponentLink3Description: Microchip.com Home; ComponentLink3URL: http://www.microchip.com/
footprint DDPAK-ET5_N (D2-PAK, 6-Leads, Body 9x10.2mm, Pitch 1.7mm, Lead Span 14.9mm, IPC Medium Density)
footprint DDPAK-ET5_L (D2-PAK, 6-Leads, Body 9x10.2mm, Pitch 1.7mm, Lead Span 14.9mm, IPC High Density)
footprint DDPAK-ET5_M (D2-PAK, 6-Leads, Body 9x10.2mm, Pitch 1.7mm, Lead Span 14.9mm, IPC Low Density)
pins: 1 ~{SHDN} (in), 2 VIN (power), 3 GND (power), 4 VOUT (power), 5 PWRGD (power), 6 GND (power)

## MCP1827T-5002E/ET
designator U?
1.5A, Low Voltage, Low Quiescent Current LDO Regulator, 5-Pin DDPAK, Extended Temperature, Tape and Reel; Published: 29-Jan-2009; DatasheetVersion: revC, Feb-2007; PackageVersion: revBB, Aug-2009; PackageReference: DDPAK-ET5; Publisher: Altium Limited; PackageDescription: 5-Lead Plastic (ET) [DDPAK]; Supplier 1: Digi-Key; Supplier Part Number 1: MCP1827T-5002E/ET-ND; ComponentLink1Description: Datasheet; ComponentLink1URL: http://ww1.microchip.com/downloads/en/DeviceDoc/22001c.pdf; ComponentLink2Description: Packaging Specification; ComponentLink2URL: http://www.microchip.com/stellent/groups/techpub_sg/documents/packagingspec/en012702.pdf; ComponentLink3Description: Microchip.com Home; ComponentLink3URL: http://www.microchip.com/
footprint DDPAK-ET5_N (D2-PAK, 6-Leads, Body 9x10.2mm, Pitch 1.7mm, Lead Span 14.9mm, IPC Medium Density)
footprint DDPAK-ET5_L (D2-PAK, 6-Leads, Body 9x10.2mm, Pitch 1.7mm, Lead Span 14.9mm, IPC High Density)
footprint DDPAK-ET5_M (D2-PAK, 6-Leads, Body 9x10.2mm, Pitch 1.7mm, Lead Span 14.9mm, IPC Low Density)
pins: 1 ~{SHDN} (in), 2 VIN (power), 3 GND (power), 4 VOUT (power), 5 PWRGD (power), 6 GND (power)

## MCP1827T-ADJE/ET
designator U?
1.5A, Low Voltage, Low Quiescent Current LDO Regulator, 5-Pin DDPAK, Extended Temperature, Tape and Reel; Published: 29-Jan-2009; DatasheetVersion: revC, Feb-2007; PackageVersion: revBB, Aug-2009; PackageReference: DDPAK-ET5; Publisher: Altium Limited; PackageDescription: 5-Lead Plastic (ET) [DDPAK]; Supplier 1: Digi-Key; Supplier Part Number 1: MCP1827T-ADJE/ET-ND; ComponentLink1Description: Datasheet; ComponentLink1URL: http://ww1.microchip.com/downloads/en/DeviceDoc/22001c.pdf; ComponentLink2Description: Packaging Specification; ComponentLink2URL: http://www.microchip.com/stellent/groups/techpub_sg/documents/packagingspec/en012702.pdf; ComponentLink3Description: Microchip.com Home; ComponentLink3URL: http://www.microchip.com/
footprint DDPAK-ET5_N (D2-PAK, 6-Leads, Body 9x10.2mm, Pitch 1.7mm, Lead Span 14.9mm, IPC Medium Density)
footprint DDPAK-ET5_L (D2-PAK, 6-Leads, Body 9x10.2mm, Pitch 1.7mm, Lead Span 14.9mm, IPC High Density)
footprint DDPAK-ET5_M (D2-PAK, 6-Leads, Body 9x10.2mm, Pitch 1.7mm, Lead Span 14.9mm, IPC Low Density)
pins: 1 ~{SHDN} (in), 2 VIN (power), 3 GND (power), 4 VOUT (power), 5 ADJ (in), 6 GND (power)

## TC1014-1.8VCT713
designator U?
50 mA, 100 mA and 150 mA CMOS LDOs with Active-Low Shutdown and Reference Bypass, 5-Pin SOT-23, Extended Temperature, Tape and Reel; Published: 29-Jan-2009; DatasheetVersion: revE, Feb-2007; PackageVersion: revBB, Aug-2009; PackageReference: SOT-23-CT5; Publisher: Altium Limited; PackageDescription: 5-Lead Plastic Small Outline Transistor (CT) [SOT-23]; Supplier 1: Digi-Key; Supplier Part Number 1: TC10141.8VCT713TR-ND; Supplier 2: Digi-Key; Supplier Part Number 2: TC10141.8VCT713CT-ND; Supplier 3: Digi-Key; Supplier Part Number 3: TC10141.8VCT713DKR-ND; Supplier 4: Farnell; Supplier Part Number 4: 1331500; Code_IPC: SOT23-5; ComponentLink1Description: Datasheet; ComponentLink1URL: http://ww1.microchip.com/downloads/en/DeviceDoc/21335e.pdf; ComponentLink2Description: Packaging Specification; ComponentLink2URL: http://www.microchip.com/stellent/groups/techpub_sg/documents/packagingspec/en012702.pdf; ComponentLink3Description: Microchip.com Home; ComponentLink3URL: http://www.microchip.com/
footprint SOT-23-CT5_N (SOT23, 5-Leads, Body 2.9x1.6mm, Pitch 0.95mm, Lead Span 2.7mm, IPC Medium Density)
footprint SOT-23-CT5_L (SOT23, 5-Leads, Body 2.9x1.6mm, Pitch 0.95mm, Lead Span 2.7mm, IPC High Density)
footprint SOT-23-CT5_M (SOT23, 5-Leads, Body 2.9x1.6mm, Pitch 0.95mm, Lead Span 2.7mm, IPC Low Density)
pins: 1 VIN (power), 2 GND (power), 3 ~{SHDN} (in), 4 BYPASS, 5 VOUT (power)

## TC1014-2.5VCT713
designator U?
50 mA, 100 mA and 150 mA CMOS LDOs with Active-Low Shutdown and Reference Bypass, 5-Pin SOT-23, Extended Temperature, Tape and Reel; Published: 29-Jan-2009; DatasheetVersion: revE, Feb-2007; PackageVersion: revBB, Aug-2009; PackageReference: SOT-23-CT5; Publisher: Altium Limited; PackageDescription: 5-Lead Plastic Small Outline Transistor (CT) [SOT-23]; Supplier 1: Digi-Key; Supplier Part Number 1: TC1014-2.5VCT713TR-ND; Supplier 2: Digi-Key; Supplier Part Number 2: TC1014-2.5VCT713CT-ND; Supplier 3: Digi-Key; Supplier Part Number 3: TC1014-2.5VCT713DKR-ND; Supplier 4: Farnell; Supplier Part Number 4: 1439490; Code_IPC: SOT23-5; ComponentLink1Description: Datasheet; ComponentLink1URL: http://ww1.microchip.com/downloads/en/DeviceDoc/21335e.pdf; ComponentLink2Description: Packaging Specification; ComponentLink2URL: http://www.microchip.com/stellent/groups/techpub_sg/documents/packagingspec/en012702.pdf; ComponentLink3Description: Microchip.com Home; ComponentLink3URL: http://www.microchip.com/
footprint SOT-23-CT5_N (SOT23, 5-Leads, Body 2.9x1.6mm, Pitch 0.95mm, Lead Span 2.7mm, IPC Medium Density)
footprint SOT-23-CT5_L (SOT23, 5-Leads, Body 2.9x1.6mm, Pitch 0.95mm, Lead Span 2.7mm, IPC High Density)
footprint SOT-23-CT5_M (SOT23, 5-Leads, Body 2.9x1.6mm, Pitch 0.95mm, Lead Span 2.7mm, IPC Low Density)
pins: 1 VIN (power), 2 GND (power), 3 ~{SHDN} (in), 4 BYPASS, 5 VOUT (power)

## TC1014-2.6VCT713
designator U?
50 mA, 100 mA and 150 mA CMOS LDOs with Active-Low Shutdown and Reference Bypass, 5-Pin SOT-23, Extended Temperature, Tape and Reel; Published: 29-Jan-2009; DatasheetVersion: revE, Feb-2007; PackageVersion: revBB, Aug-2009; PackageReference: SOT-23-CT5; Publisher: Altium Limited; PackageDescription: 5-Lead Plastic Small Outline Transistor (CT) [SOT-23]; Supplier 1: Digi-Key; Supplier Part Number 1: TC1014-2.6VCT713-ND; Code_IPC: SOT23-5; ComponentLink1Description: Datasheet; ComponentLink1URL: http://ww1.microchip.com/downloads/en/DeviceDoc/21335e.pdf; ComponentLink2Description: Packaging Specification; ComponentLink2URL: http://www.microchip.com/stellent/groups/techpub_sg/documents/packagingspec/en012702.pdf; ComponentLink3Description: Microchip.com Home; ComponentLink3URL: http://www.microchip.com/
footprint SOT-23-CT5_N (SOT23, 5-Leads, Body 2.9x1.6mm, Pitch 0.95mm, Lead Span 2.7mm, IPC Medium Density)
footprint SOT-23-CT5_L (SOT23, 5-Leads, Body 2.9x1.6mm, Pitch 0.95mm, Lead Span 2.7mm, IPC High Density)
footprint SOT-23-CT5_M (SOT23, 5-Leads, Body 2.9x1.6mm, Pitch 0.95mm, Lead Span 2.7mm, IPC Low Density)
pins: 1 VIN (power), 2 GND (power), 3 ~{SHDN} (in), 4 BYPASS, 5 VOUT (power)

## TC1014-2.7VCT713
designator U?
50 mA, 100 mA and 150 mA CMOS LDOs with Active-Low Shutdown and Reference Bypass, 5-Pin SOT-23, Extended Temperature, Tape and Reel; Published: 29-Jan-2009; DatasheetVersion: revE, Feb-2007; PackageVersion: revBB, Aug-2009; PackageReference: SOT-23-CT5; Publisher: Altium Limited; PackageDescription: 5-Lead Plastic Small Outline Transistor (CT) [SOT-23]; Supplier 1: Digi-Key; Supplier Part Number 1: TC10142.7VCT713TR-ND; Supplier 2: Digi-Key; Supplier Part Number 2: TC10142.7VCT713CT-ND; Supplier 3: Digi-Key; Supplier Part Number 3: TC10142.7VCT713DKR-ND; Code_IPC: SOT23-5; ComponentLink1Description: Datasheet; ComponentLink1URL: http://ww1.microchip.com/downloads/en/DeviceDoc/21335e.pdf; ComponentLink2Description: Packaging Specification; ComponentLink2URL: http://www.microchip.com/stellent/groups/techpub_sg/documents/packagingspec/en012702.pdf; ComponentLink3Description: Microchip.com Home; ComponentLink3URL: http://www.microchip.com/
footprint SOT-23-CT5_N (SOT23, 5-Leads, Body 2.9x1.6mm, Pitch 0.95mm, Lead Span 2.7mm, IPC Medium Density)
footprint SOT-23-CT5_L (SOT23, 5-Leads, Body 2.9x1.6mm, Pitch 0.95mm, Lead Span 2.7mm, IPC High Density)
footprint SOT-23-CT5_M (SOT23, 5-Leads, Body 2.9x1.6mm, Pitch 0.95mm, Lead Span 2.7mm, IPC Low Density)
pins: 1 VIN (power), 2 GND (power), 3 ~{SHDN} (in), 4 BYPASS, 5 VOUT (power)

## TC1014-2.8VCT713
designator U?
50 mA, 100 mA and 150 mA CMOS LDOs with Active-Low Shutdown and Reference Bypass, 5-Pin SOT-23, Extended Temperature, Tape and Reel; Published: 29-Jan-2009; DatasheetVersion: revE, Feb-2007; PackageVersion: revBB, Aug-2009; PackageReference: SOT-23-CT5; Publisher: Altium Limited; PackageDescription: 5-Lead Plastic Small Outline Transistor (CT) [SOT-23]; Supplier 1: Digi-Key; Supplier Part Number 1: TC1014-2.8VCT713-ND; Code_IPC: SOT23-5; ComponentLink1Description: Datasheet; ComponentLink1URL: http://ww1.microchip.com/downloads/en/DeviceDoc/21335e.pdf; ComponentLink2Description: Packaging Specification; ComponentLink2URL: http://www.microchip.com/stellent/groups/techpub_sg/documents/packagingspec/en012702.pdf; ComponentLink3Description: Microchip.com Home; ComponentLink3URL: http://www.microchip.com/
footprint SOT-23-CT5_N (SOT23, 5-Leads, Body 2.9x1.6mm, Pitch 0.95mm, Lead Span 2.7mm, IPC Medium Density)
footprint SOT-23-CT5_L (SOT23, 5-Leads, Body 2.9x1.6mm, Pitch 0.95mm, Lead Span 2.7mm, IPC High Density)
footprint SOT-23-CT5_M (SOT23, 5-Leads, Body 2.9x1.6mm, Pitch 0.95mm, Lead Span 2.7mm, IPC Low Density)
pins: 1 VIN (power), 2 GND (power), 3 ~{SHDN} (in), 4 BYPASS, 5 VOUT (power)

## TC1014-2.85VCT713
designator U?
50 mA, 100 mA and 150 mA CMOS LDOs with Active-Low Shutdown and Reference Bypass, 5-Pin SOT-23, Extended Temperature, Tape and Reel; Published: 29-Jan-2009; DatasheetVersion: revE, Feb-2007; PackageVersion: revBB, Aug-2009; PackageReference: SOT-23-CT5; Publisher: Altium Limited; PackageDescription: 5-Lead Plastic Small Outline Transistor (CT) [SOT-23]; Supplier 1: Digi-Key; Supplier Part Number 1: TC1014-2.85VCT713-ND; Code_IPC: SOT23-5; ComponentLink1Description: Datasheet; ComponentLink1URL: http://ww1.microchip.com/downloads/en/DeviceDoc/21335e.pdf; ComponentLink2Description: Packaging Specification; ComponentLink2URL: http://www.microchip.com/stellent/groups/techpub_sg/documents/packagingspec/en012702.pdf; ComponentLink3Description: Microchip.com Home; ComponentLink3URL: http://www.microchip.com/
footprint SOT-23-CT5_N (SOT23, 5-Leads, Body 2.9x1.6mm, Pitch 0.95mm, Lead Span 2.7mm, IPC Medium Density)
footprint SOT-23-CT5_L (SOT23, 5-Leads, Body 2.9x1.6mm, Pitch 0.95mm, Lead Span 2.7mm, IPC High Density)
footprint SOT-23-CT5_M (SOT23, 5-Leads, Body 2.9x1.6mm, Pitch 0.95mm, Lead Span 2.7mm, IPC Low Density)
pins: 1 VIN (power), 2 GND (power), 3 ~{SHDN} (in), 4 BYPASS, 5 VOUT (power)

## TC1014-3.0VCT713
designator U?
50 mA, 100 mA and 150 mA CMOS LDOs with Active-Low Shutdown and Reference Bypass, 5-Pin SOT-23, Extended Temperature, Tape and Reel; Published: 29-Jan-2009; DatasheetVersion: revE, Feb-2007; PackageVersion: revBB, Aug-2009; PackageReference: SOT-23-CT5; Publisher: Altium Limited; PackageDescription: 5-Lead Plastic Small Outline Transistor (CT) [SOT-23]; Supplier 1: Digi-Key; Supplier Part Number 1: TC1014-3.0VCT713TR-ND; Supplier 2: Digi-Key; Supplier Part Number 2: TC1014-3.0VCT713CT-ND; Supplier 3: Digi-Key; Supplier Part Number 3: TC1014-3.0VCT713DKR-ND; Supplier 4: Farnell; Supplier Part Number 4: 1331501; Code_IPC: SOT23-5; ComponentLink1Description: Datasheet; ComponentLink1URL: http://ww1.microchip.com/downloads/en/DeviceDoc/21335e.pdf; ComponentLink2Description: Packaging Specification; ComponentLink2URL: http://www.microchip.com/stellent/groups/techpub_sg/documents/packagingspec/en012702.pdf; ComponentLink3Description: Microchip.com Home; ComponentLink3URL: http://www.microchip.com/
footprint SOT-23-CT5_N (SOT23, 5-Leads, Body 2.9x1.6mm, Pitch 0.95mm, Lead Span 2.7mm, IPC Medium Density)
footprint SOT-23-CT5_L (SOT23, 5-Leads, Body 2.9x1.6mm, Pitch 0.95mm, Lead Span 2.7mm, IPC High Density)
footprint SOT-23-CT5_M (SOT23, 5-Leads, Body 2.9x1.6mm, Pitch 0.95mm, Lead Span 2.7mm, IPC Low Density)
pins: 1 VIN (power), 2 GND (power), 3 ~{SHDN} (in), 4 BYPASS, 5 VOUT (power)

## TC1014-3.1VCT713
designator U?
50 mA, 100 mA and 150 mA CMOS LDOs with Active-Low Shutdown and Reference Bypass, 5-Pin SOT-23, Extended Temperature, Tape and Reel; Published: 2-Dec-2009; DatasheetVersion: revE, Feb-2007; PackageVersion: revBB, Aug-2009; PackageReference: SOT-23-CT5; Publisher: Altium Limited; PackageDescription: 5-Lead Plastic Small Outline Transistor (CT) [SOT-23]; Code_IPC: SOT23-5; ComponentLink1Description: Datasheet; ComponentLink1URL: http://ww1.microchip.com/downloads/en/DeviceDoc/21335e.pdf; ComponentLink2Description: Packaging Specification; ComponentLink2URL: http://www.microchip.com/stellent/groups/techpub_sg/documents/packagingspec/en012702.pdf; ComponentLink3Description: Microchip.com Home; ComponentLink3URL: http://www.microchip.com/
footprint SOT-23-CT5_N (SOT23, 5-Leads, Body 2.9x1.6mm, Pitch 0.95mm, Lead Span 2.7mm, IPC Medium Density)
footprint SOT-23-CT5_L (SOT23, 5-Leads, Body 2.9x1.6mm, Pitch 0.95mm, Lead Span 2.7mm, IPC High Density)
footprint SOT-23-CT5_M (SOT23, 5-Leads, Body 2.9x1.6mm, Pitch 0.95mm, Lead Span 2.7mm, IPC Low Density)
pins: 1 VIN (power), 2 GND (power), 3 ~{SHDN} (in), 4 BYPASS, 5 VOUT (power)

## TC1014-3.3VCT713
designator U?
50 mA, 100 mA and 150 mA CMOS LDOs with Active-Low Shutdown and Reference Bypass, 5-Pin SOT-23, Extended Temperature, Tape and Reel; Published: 29-Jan-2009; DatasheetVersion: revE, Feb-2007; PackageVersion: revBB, Aug-2009; PackageReference: SOT-23-CT5; Publisher: Altium Limited; PackageDescription: 5-Lead Plastic Small Outline Transistor (CT) [SOT-23]; Supplier 1: Digi-Key; Supplier Part Number 1: TC1014-3.3VCT713TR-ND; Supplier 2: Digi-Key; Supplier Part Number 2: TC1014-3.3VCT713CT-ND; Supplier 3: Digi-Key; Supplier Part Number 3: TC1014-3.3VCT713DKR-ND; Supplier 4: Farnell; Supplier Part Number 4: 1331502; Code_IPC: SOT23-5; ComponentLink1Description: Datasheet; ComponentLink1URL: http://ww1.microchip.com/downloads/en/DeviceDoc/21335e.pdf; ComponentLink2Description: Packaging Specification; ComponentLink2URL: http://www.microchip.com/stellent/groups/techpub_sg/documents/packagingspec/en012702.pdf; ComponentLink3Description: Microchip.com Home; ComponentLink3URL: http://www.microchip.com/
footprint SOT-23-CT5_N (SOT23, 5-Leads, Body 2.9x1.6mm, Pitch 0.95mm, Lead Span 2.7mm, IPC Medium Density)
footprint SOT-23-CT5_L (SOT23, 5-Leads, Body 2.9x1.6mm, Pitch 0.95mm, Lead Span 2.7mm, IPC High Density)
footprint SOT-23-CT5_M (SOT23, 5-Leads, Body 2.9x1.6mm, Pitch 0.95mm, Lead Span 2.7mm, IPC Low Density)
pins: 1 VIN (power), 2 GND (power), 3 ~{SHDN} (in), 4 BYPASS, 5 VOUT (power)

## TC1014-3.6VCT713
designator U?
50 mA, 100 mA and 150 mA CMOS LDOs with Active-Low Shutdown and Reference Bypass, 5-Pin SOT-23, Extended Temperature, Tape and Reel; Published: 29-Jan-2009; DatasheetVersion: revE, Feb-2007; PackageVersion: revBB, Aug-2009; PackageReference: SOT-23-CT5; Publisher: Altium Limited; PackageDescription: 5-Lead Plastic Small Outline Transistor (CT) [SOT-23]; Supplier 1: Digi-Key; Supplier Part Number 1: TC1014-3.6VCT713-ND; Code_IPC: SOT23-5; ComponentLink1Description: Datasheet; ComponentLink1URL: http://ww1.microchip.com/downloads/en/DeviceDoc/21335e.pdf; ComponentLink2Description: Packaging Specification; ComponentLink2URL: http://www.microchip.com/stellent/groups/techpub_sg/documents/packagingspec/en012702.pdf; ComponentLink3Description: Microchip.com Home; ComponentLink3URL: http://www.microchip.com/
footprint SOT-23-CT5_N (SOT23, 5-Leads, Body 2.9x1.6mm, Pitch 0.95mm, Lead Span 2.7mm, IPC Medium Density)
footprint SOT-23-CT5_L (SOT23, 5-Leads, Body 2.9x1.6mm, Pitch 0.95mm, Lead Span 2.7mm, IPC High Density)
footprint SOT-23-CT5_M (SOT23, 5-Leads, Body 2.9x1.6mm, Pitch 0.95mm, Lead Span 2.7mm, IPC Low Density)
pins: 1 VIN (power), 2 GND (power), 3 ~{SHDN} (in), 4 BYPASS, 5 VOUT (power)

## TC1014-4.0VCT713
designator U?
50 mA, 100 mA and 150 mA CMOS LDOs with Active-Low Shutdown and Reference Bypass, 5-Pin SOT-23, Extended Temperature, Tape and Reel; Published: 29-Jan-2009; DatasheetVersion: revE, Feb-2007; PackageVersion: revBB, Aug-2009; PackageReference: SOT-23-CT5; Publisher: Altium Limited; PackageDescription: 5-Lead Plastic Small Outline Transistor (CT) [SOT-23]; Supplier 1: Digi-Key; Supplier Part Number 1: TC1014-4.0VCT713-ND; Code_IPC: SOT23-5; ComponentLink1Description: Datasheet; ComponentLink1URL: http://ww1.microchip.com/downloads/en/DeviceDoc/21335e.pdf; ComponentLink2Description: Packaging Specification; ComponentLink2URL: http://www.microchip.com/stellent/groups/techpub_sg/documents/packagingspec/en012702.pdf; ComponentLink3Description: Microchip.com Home; ComponentLink3URL: http://www.microchip.com/
footprint SOT-23-CT5_N (SOT23, 5-Leads, Body 2.9x1.6mm, Pitch 0.95mm, Lead Span 2.7mm, IPC Medium Density)
footprint SOT-23-CT5_L (SOT23, 5-Leads, Body 2.9x1.6mm, Pitch 0.95mm, Lead Span 2.7mm, IPC High Density)
footprint SOT-23-CT5_M (SOT23, 5-Leads, Body 2.9x1.6mm, Pitch 0.95mm, Lead Span 2.7mm, IPC Low Density)
pins: 1 VIN (power), 2 GND (power), 3 ~{SHDN} (in), 4 BYPASS, 5 VOUT (power)

## TC1014-5.0VCT713
designator U?
50 mA, 100 mA and 150 mA CMOS LDOs with Active-Low Shutdown and Reference Bypass, 5-Pin SOT-23, Extended Temperature, Tape and Reel; Published: 29-Jan-2009; DatasheetVersion: revE, Feb-2007; PackageVersion: revBB, Aug-2009; PackageReference: SOT-23-CT5; Publisher: Altium Limited; PackageDescription: 5-Lead Plastic Small Outline Transistor (CT) [SOT-23]; Supplier 1: Digi-Key; Supplier Part Number 1: TC10145.0VCT713TR-ND; Supplier 2: Digi-Key; Supplier Part Number 2: TC10145.0VCT713CT-ND; Supplier 3: Digi-Key; Supplier Part Number 3: TC10145.0VCT713DKR-ND; Supplier 4: Farnell; Supplier Part Number 4: 1331503; Code_IPC: SOT23-5; ComponentLink1Description: Datasheet; ComponentLink1URL: http://ww1.microchip.com/downloads/en/DeviceDoc/21335e.pdf; ComponentLink2Description: Packaging Specification; ComponentLink2URL: http://www.microchip.com/stellent/groups/techpub_sg/documents/packagingspec/en012702.pdf; ComponentLink3Description: Microchip.com Home; ComponentLink3URL: http://www.microchip.com/
footprint SOT-23-CT5_N (SOT23, 5-Leads, Body 2.9x1.6mm, Pitch 0.95mm, Lead Span 2.7mm, IPC Medium Density)
footprint SOT-23-CT5_L (SOT23, 5-Leads, Body 2.9x1.6mm, Pitch 0.95mm, Lead Span 2.7mm, IPC High Density)
footprint SOT-23-CT5_M (SOT23, 5-Leads, Body 2.9x1.6mm, Pitch 0.95mm, Lead Span 2.7mm, IPC Low Density)
pins: 1 VIN (power), 2 GND (power), 3 ~{SHDN} (in), 4 BYPASS, 5 VOUT (power)